# EAGLE library part MICRO-FIT_3.0_12POS_VERT_THRU (library Schuyler)
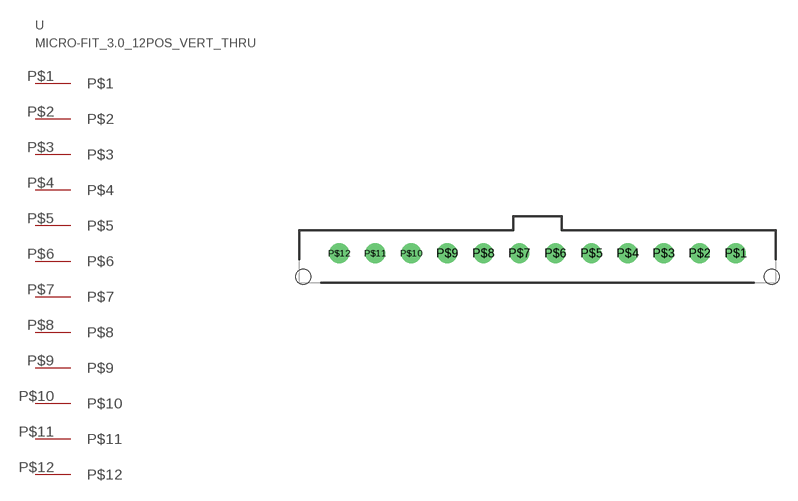
[diagram p8: symbol with the pads of MICRO-FIT_3.0-12POS_VERT_THROUGH; footprint MICRO-FIT_3.0-12POS_VERT_THROUGH]

Designator prefix -

## MICRO-FIT_3.0_12POS_VERT_THRU  [MICRO-FIT_3.0-12POS_VERT_THROUGH]
P$1  P$1
P$2  P$2
P$3  P$3
P$4  P$4
P$5  P$5
P$6  P$6
P$7  P$7
P$8  P$8
P$9  P$9
P$10  P$10
P$11  P$11
P$12  P$12

## Footprint MICRO-FIT_3.0-12POS_VERT_THROUGH (pad centres in mm)
drill 1.1: P$1 16.5,0; P$2 13.5,0; P$3 10.5,0; P$4 7.5,0; P$5 4.5,0; P$6 1.5,0; P$7 -1.5,0; P$8 -4.5,0; P$9 -7.5,0; P$10 -10.5,0; P$11 -13.5,0; P$12 -16.5,0
hole 1.27 at 19.5,-1.96
hole 1.27 at -19.5,-1.96